# EAGLE library part LM324N (library OP_s)
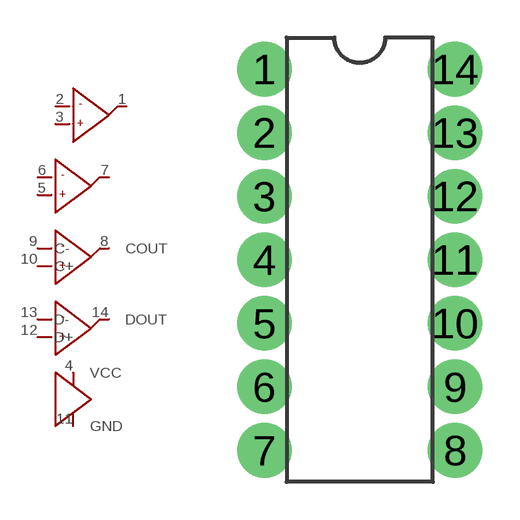
[diagram p2: symbol with the pads of LM339; footprint LM339]

Designator prefix -; gates G$1=OP_A G$2=OP_B G$3=OP_D G$4=OP_C G$5=OP_VCC

## LM324N  [LM339]
1  G$1:AOUT
2  G$1:A-
3  G$1:A+
4  G$5:VCC  sup
5  G$2:B+
6  G$2:B-
7  G$2:BOUT
8  G$4:COUT
9  G$4:C-
10  G$4:C+
11  G$5:GND  sup
12  G$3:D+
13  G$3:D-
14  G$3:DOUT

## Footprint LM339 (pad centres in mm)
drill 1 pad 2.184 round: 1 -3.81,7.62; 2 -3.81,5.08; 3 -3.81,2.54; 4 -3.81,0; 5 -3.81,-2.54; 6 -3.81,-5.08; 7 -3.81,-7.62; 8 3.81,-7.62; 9 3.81,-5.08; 10 3.81,-2.54; 11 3.81,0; 12 3.81,2.54; 13 3.81,5.08; 14 3.81,7.62